# EAGLE library part PORT_CASSETTE_EDGE (library commodore)
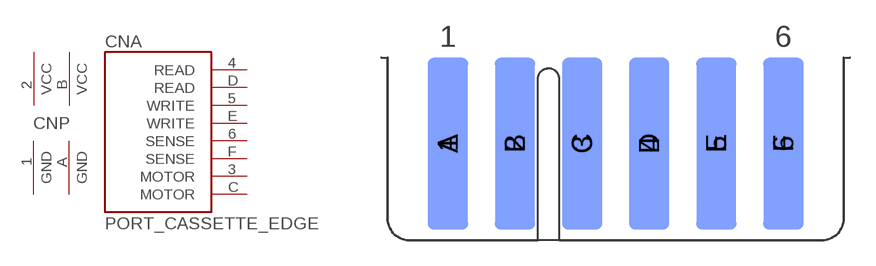
[diagram p61: symbol with the pads of MA156_6-2_KEYED; footprint MA156_6-2_KEYED]

Designator prefix CN; gates A=PORT_CASSETTE_EDGE P=PWR2-GND2

## PORT_CASSETTE_EDGE  [MA156_6-2_KEYED]
1  P:GND  pwr
2  P:VCC  pwr
3  A:MOTOR  out
4  A:READ  in
5  A:WRITE  out
6  A:SENSE  in
A  P:GND  pwr
B  P:VCC  pwr
C  A:MOTOR  out
D  A:READ  in
E  A:WRITE  out
F  A:SENSE  in

## Footprint MA156_6-2_KEYED (pad centres in mm)
smd 2.388 x 10.16: 1 -9.906,0; 2 -5.944,0; 3 -1.981,0; 4 1.981,0; 5 5.944,0; 6 9.906,0
smd 2.388 x 10.16 bottom: A -9.906,0; B -5.944,0; C -1.981,0; D 1.981,0; E 5.944,0; F 9.906,0